# Altium footprint library Components - 30.01.24 - 13.40.PcbLib: 1 footprints
Each footprint in its own frame and in the unit in brackets; x right, y up, seen from the top. Pads: shape width x height; smd on the part's side, far side on the other; paste and mask are expansions set on the pad; w line width, h text height; cw(c..) or ccw(c..) is an arc to the next point about the centre after c.
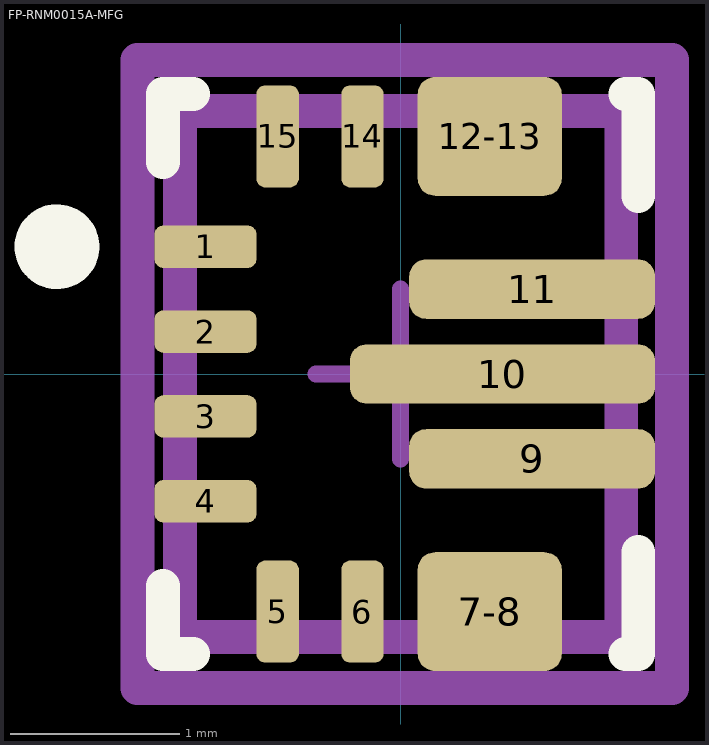
[diagram p0: the footprint, top view; thin cyan lines are the x and y axes]

## FP-RNM0015A-MFG [mm]
pads (13):
  rrect40% 0.6x0.25 smd paste+0 mask-1000: 1(-1.15,0.75) 2(-1.15,0.25) 3(-1.15,-0.25) 4(-1.15,-0.75)
  rrect40% 0.25x0.6 smd paste+0 mask-1000: 5(-0.725,-1.4) 6(-0.225,-1.4) 14(-0.225,1.4) 15(-0.725,1.4)
  rrect29% 0.85x0.7 smd paste-1000 mask-1000: 7-8(0.525,-1.4) 12-13(0.525,1.4)
  rrect57% 1.45x0.35 smd paste-1000 mask-1000: 9(0.775,-0.5) 11(0.775,0.5)
  rrect57% 1.8x0.35 smd paste-1000 mask-1000: 10(0.6,0)
Top Overlay:
  circle w0.25: c-2.025,0.75 r0.125
  lines w0.2: -1.4,-1.25 -1.4,-1.65 -1.225,-1.65 ; -1.4,1.25 -1.4,1.65 -1.225,1.65 ; 1.325,-1.65 1.4,-1.65 1.4,-1.05 ; 1.325,1.65 1.4,1.65 1.4,1.05
Top Paste:
  drawing of 8 lines, arcs and shapes, not listed
Top Solder:
  drawing of 13 lines, arcs and shapes, not listed
Top Assembly:
  lines w0.2: -1.55,-1.85 1.6,-1.85 1.6,1.85 -1.55,1.85 -1.55,-1.85
  text ".Designator" at 0.025,0.188 h1
Top 3D Body:
  lines w0.2: -1.3,-1.55 1.3,-1.55 1.3,1.55 -1.3,1.55 -1.3,-1.55
Top Courtyard:
  lines w0.2: -1.55,-1.85 1.6,-1.85 1.6,1.85 -1.55,1.85 -1.55,-1.85
Top Component Center:
  lines w0.1: -0.5,0 0.5,0 ; 0,-0.5 0,0.5
3D body "IC_Texas_Instruments_TPS63070RNMT_eec.STEP": height 0.25, standoff 0, extent -1.55,-1.85 1.6,1.85